# Altium footprint library TE_50x40mm_Snap.PcbLib: 1 footprints
Each footprint in its own frame and in the unit in brackets; x right, y up, seen from the top. Pads: shape width x height; smd on the part's side, far side on the other; paste and mask are expansions set on the pad; w line width, h text height; cw(c..) or ccw(c..) is an arc to the next point about the centre after c.
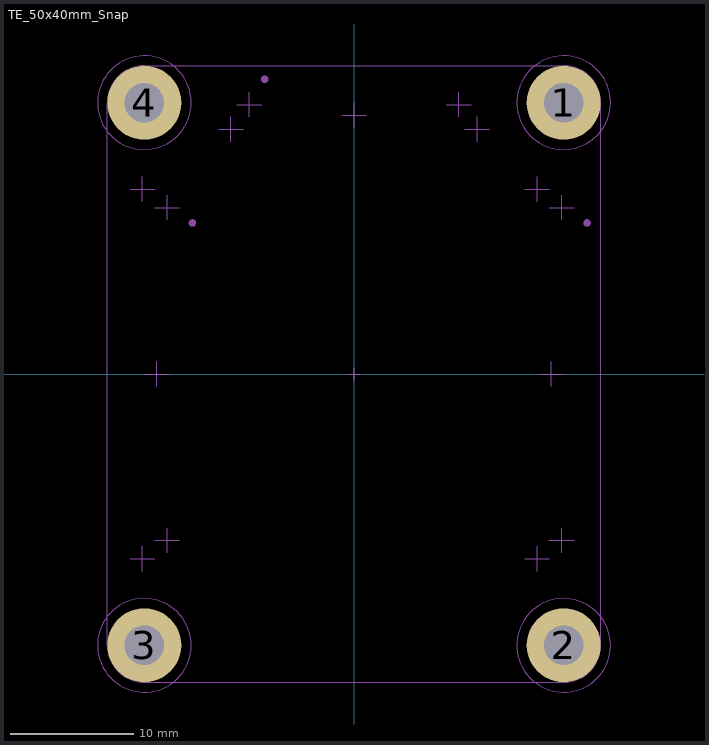
[diagram p0: the footprint, top view; thin cyan lines are the x and y axes]

## TE_50x40mm_Snap [mm]
pads (4):
  round 6 hole 3.2: 1(17,22) 2(17,-22) 3(-17,-22) 4(-17,22)
TDev-Notes-Top:
  circle w0.3: c18.9,12.25 r0.15
  circle w0.3: c-13.1,12.25 r0.15
  circle w0.3: c-7.25,23.9 r0.15
  lines w0.05: -18.15,-14.975 -16.15,-14.975 ; -18.15,14.975 -16.15,14.975 ; -18,-22 -16,-22 ; -18,22 -16,22 ; -17.15,-15.975 -17.15,-13.975 ; -17.15,13.975 -17.15,15.975 ; -17,-23 -17,-21 ; -17,0 -15,0 ; -17,21 -17,23 ; -16.15,-13.5 -14.15,-13.5 ; -16.15,13.5 -14.15,13.5 ; -16,-1 -16,1 ; -15.15,-14.5 -15.15,-12.5 ; -15.15,12.5 -15.15,14.5 ; -10.975,19.85 -8.975,19.85 ; -9.975,18.85 -9.975,20.85 ; -9.5,21.85 -7.5,21.85 ; -8.5,20.85 -8.5,22.85 ; -1,21 1,21 ; 0,20 0,22 ; 7.5,21.85 9.5,21.85 ; 8.5,20.85 8.5,22.85 ; 8.975,19.85 10.975,19.85 ; 9.975,18.85 9.975,20.85 ; 13.85,-14.975 15.85,-14.975 ; 13.85,14.975 15.85,14.975 ; 14.85,-15.975 14.85,-13.975 ; 14.85,13.975 14.85,15.975 ; 15,0 17,0 ; 15.85,-13.5 17.85,-13.5 ; 15.85,13.5 17.85,13.5 ; 16,-22 18,-22 ; 16,-1 16,1 ; 16,22 18,22 ; 16.85,-14.5 16.85,-12.5 ; 16.85,12.5 16.85,14.5 ; 17,-23 17,-21 ; 17,21 17,23
  lines w0.1: -20,-22 ccw(c-17,-22) -17,-25 17,-25 ccw(c17,-22) 20,-22 20,22 ccw(c17,22) 17,25 -17,25 ccw(c-17,22) -20,22 -20,-22
  text "JB2_1" at 18.7,11.8 h1
  text "JB1_1" at -13.3,11.8 h1
  text "JB3_1" at -6.8,23.7 h1
Assembly Top:
  circle w0.1: c-17,22 r3.8
  circle w0.1: c-17,-22 r3.8
  circle w0.1: c17,-22 r3.8
  circle w0.1: c-17,-22 r1.6
  circle w0.1: c17,-22 r1.6
  circle w0.1: c17,22 r3.8
  circle w0.1: c17,22 r1.6
  circle w0.1: c-17,22 r1.6
Assembly Bot:
  circle w0.1: c-17,22 r3.8
  circle w0.1: c-17,-22 r3.8
  circle w0.1: c17,-22 r3.8
  circle w0.1: c-17,-22 r1.6
  circle w0.1: c17,-22 r1.6
  circle w0.1: c17,22 r1.6
  circle w0.1: c17,22 r3.8
  circle w0.1: c-17,22 r1.6
Courtyard Top:
  circle w0.05: c-17,22 r3.8
  circle w0.05: c-17,-22 r3.8
  circle w0.05: c17,-22 r3.8
  circle w0.05: c17,22 r3.8
  lines w0.05: -0.5,0 0.5,0 ; 0,-0.5 0,0.5 ; -18,-22 -16,-22 -18,-22 ; -18,22 -16,22 -18,22 ; -17,-23 -17,-21 -17,-23 ; -17,21 -17,23 -17,21 ; 16,-22 18,-22 16,-22 ; 16,22 18,22 16,22 ; 17,-23 17,-21 17,-23 ; 17,21 17,23 17,21
Courtyard Bot:
  circle w0.05: c-17,22 r3.8
  circle w0.05: c-17,-22 r3.8
  circle w0.05: c17,-22 r3.8
  circle w0.05: c17,22 r3.8